# EAGLE library part MCP3204 (library HyTechDevices - Copy)
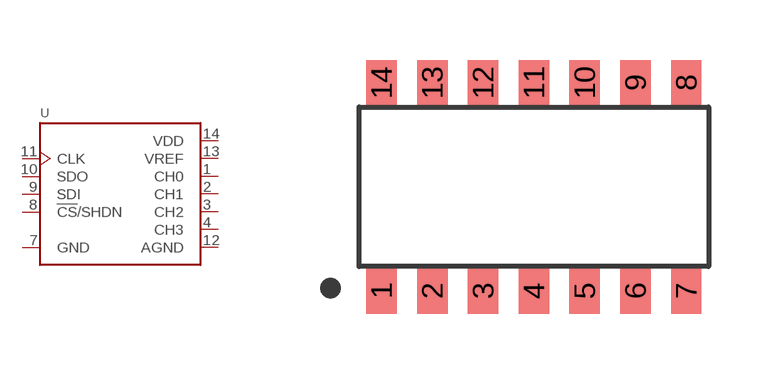
[diagram p28: symbol with the pads of SOIC-14; footprint SOIC-14]

Designator prefix -

## MCP3204  [SOIC-14]
1  CH0  in
2  CH1  in
3  CH2  in
4  CH3  in
7  GND  pwr
8  !CS!/SHDN  in
9  SDI  in
10  SDO  out
11  CLK  in
12  AGND  pwr
13  VREF  pwr
14  VDD  pwr

## Footprint SOIC-14 (pad centres in mm)
SOIC-14 Datasheet <https://www.analog.com/media/en/package-pcb-resources/package/pkg_pdf/ltc-legacy-soic/05081610_G_S14.pdf>
smd 0.762 x 1.143: 1 -3.81,-2.603; 2 -2.54,-2.603; 3 -1.27,-2.603; 4 0,-2.603; 5 1.27,-2.603; 6 2.54,-2.603; 7 3.81,-2.603; 8 3.81,2.603; 9 2.54,2.603; 10 1.27,2.603; 11 0,2.603; 12 -1.27,2.603; 13 -2.54,2.603; 14 -3.81,2.603